# EAGLE library part LT1762* (library NewSDR)
Linear Technology 150 mA LDO Voltage Regulator
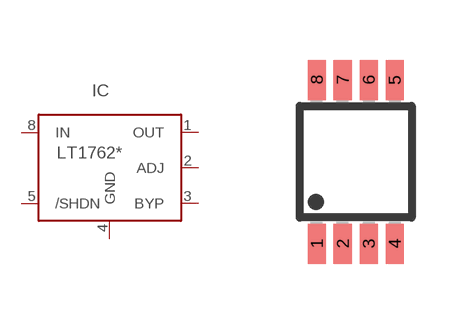
[diagram p97: symbol with the pads of MSOP8; footprint MSOP8]

Designator prefix IC

## LT1762, LT1762-2.5, LT1762-3, LT1762-3.3, LT1762-5  [MSOP8]
1  OUT  pas
2  ADJ  pas
3  BYP  pas
4  GND  in
5  /SHDN  in
8  IN  in

## Footprint MSOP8 (pad centres in mm)
Micro Small Outline Package
smd 0.45 x 1: 1 -0.975,-2.05; 2 -0.325,-2.05; 3 0.325,-2.05; 4 0.975,-2.05; 5 0.975,2.05; 6 0.325,2.05; 7 -0.325,2.05; 8 -0.975,2.05